# Altium footprint library LEAKCAM.PcbLib: 37 footprints (part 2 of 3)
Each footprint in its own frame and in the unit in brackets; x right, y up, seen from the top. Pads: shape width x height; smd on the part's side, far side on the other; paste and mask are expansions set on the pad; w line width, h text height; cw(c..) or ccw(c..) is an arc to the next point about the centre after c.
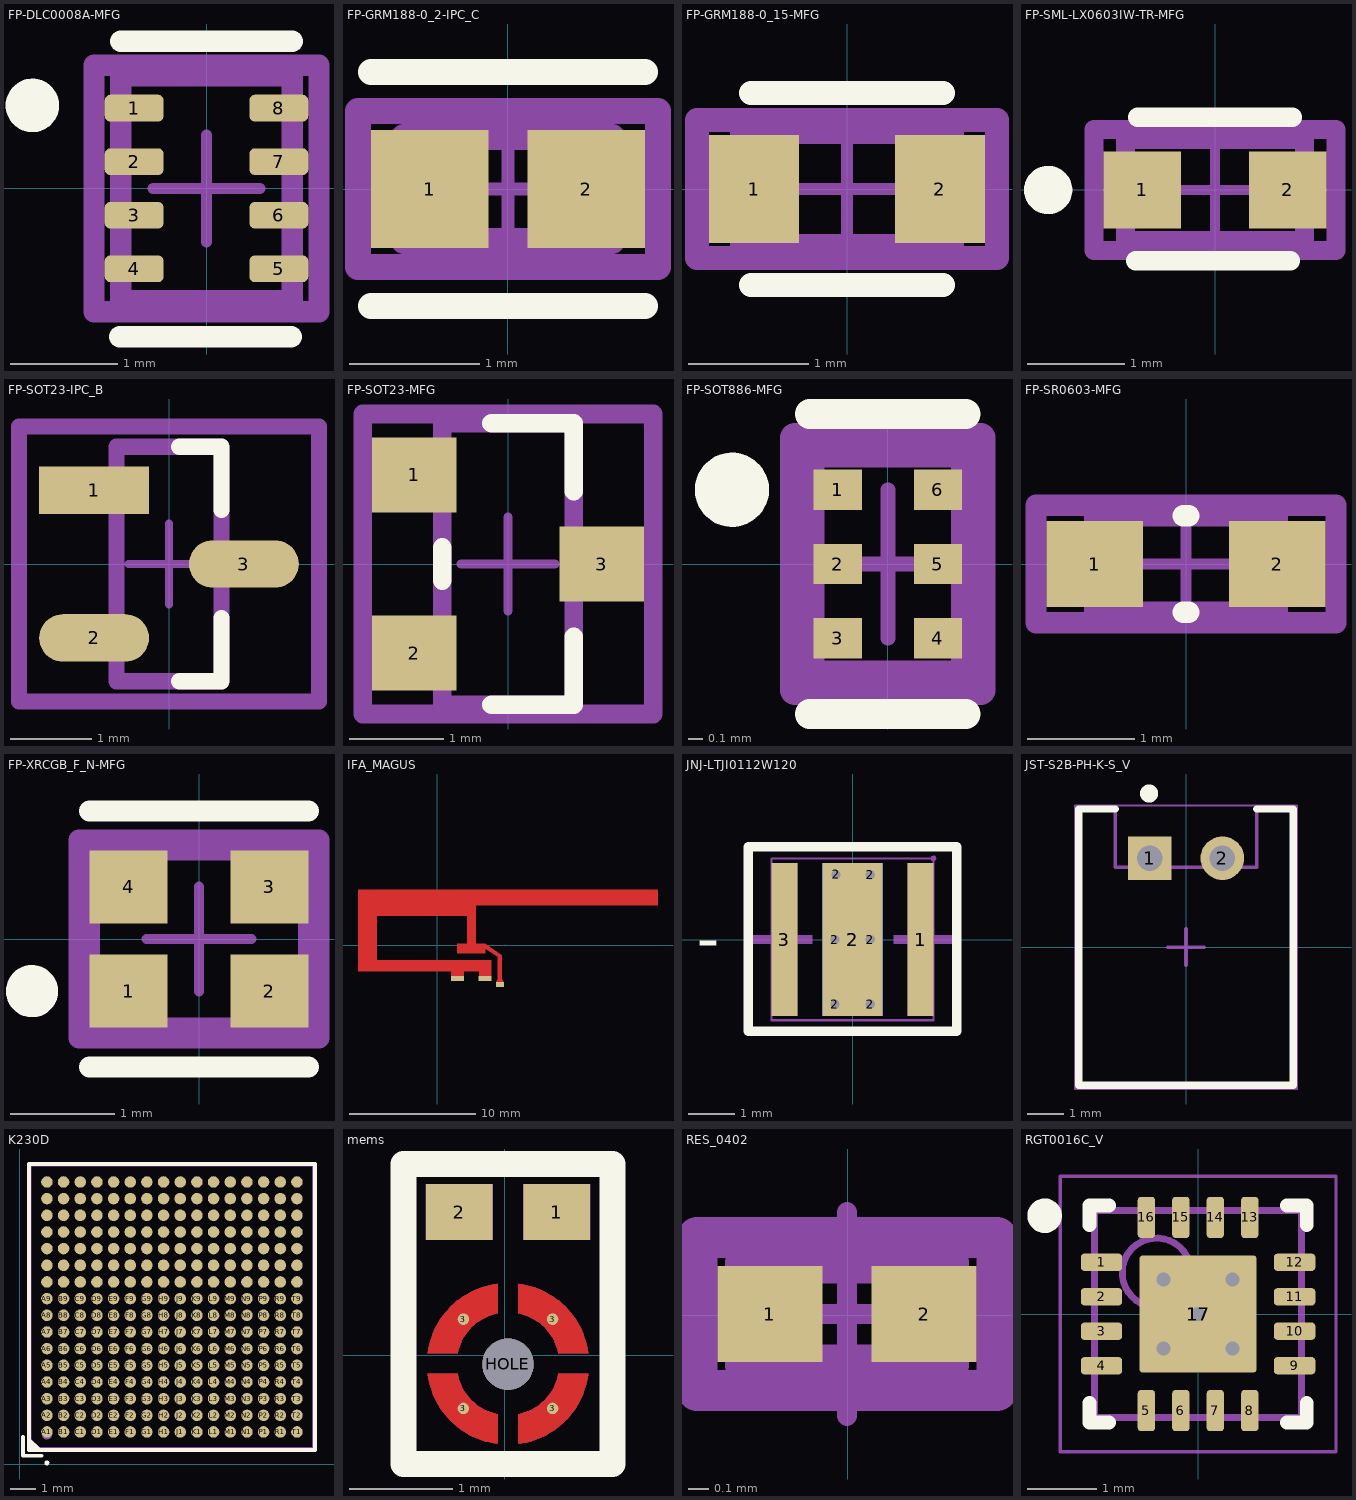
[diagram p1: the footprints below, top view; thin cyan lines are the x and y axes]

## FP-DLC0008A-MFG [mm]
pads (8):
  rrect40% 0.55x0.25 smd paste+0 mask+0: 1(-0.675,0.75) 2(-0.675,0.25) 3(-0.675,-0.25) 4(-0.675,-0.75) 5(0.675,-0.75) 6(0.675,-0.25) 7(0.675,0.25) 8(0.675,0.75)
Top Overlay:
  circle w0.25: c-1.625,0.775 r0.125
  lines w0.2: -0.808,-1.385 0.792,-1.385 ; -0.8,1.375 0.8,1.375
Top Courtyard:
  lines w0.2: -1.05,-1.15 -1.05,1.15 1.05,1.15 1.05,-1.15 -1.05,-1.15
Top Assembly:
  lines w0.2: -1.05,-1.15 -1.05,1.15 1.05,1.15 1.05,-1.15 -1.05,-1.15
  text ".Designator" at 0,0.188 h1
Top 3D Body:
  lines w0.2: -0.8,-1.05 -0.8,1.05 0.8,1.05 0.8,-1.05 -0.8,-1.05
Top Component Center:
  lines w0.1: -0.5,0 0.5,0 ; 0,-0.5 0,0.5
3D body "IC_Texas_Instruments_TPS62822DLCR_eec.STEP": height 1, standoff 0, extent -0.75,-1 0.75,1

## FP-GRM188-0_2-IPC_C [mm]
pads (2):
  rect 0.905x0.906 smd paste+0 mask+0: 1(-0.601,0) 2(0.601,0)
Top Overlay:
  lines w0.2: -1.053,-0.9 1.053,-0.9 ; -1.053,0.9 1.053,0.9
Top Courtyard:
  lines w0.2: -1.153,-0.6 -1.153,0.6 1.153,0.6 1.153,-0.6 -1.153,-0.6
Top Assembly:
  lines w0.2: -1.153,-0.6 -1.153,0.6 1.153,0.6 1.153,-0.6 -1.153,-0.6
  text ".Designator" at 0,0.188 h1
Top 3D Body:
  lines w0.2: -0.8,-0.4 -0.8,0.4 0.8,0.4 0.8,-0.4 -0.8,-0.4
Top Component Center:
  lines w0.1: -0.5,0 0.5,0 ; 0,-0.5 0,0.5
3D body "Cap_Murata_GRM188C71C225KE11D_eec.STEP": height 0.25, standoff 0, extent -1.153,-0.6 1.153,0.6

## FP-GRM188-0_15-MFG [mm]
pads (2):
  rect 0.75x0.9 smd paste+0 mask+0: 1(-0.775,0) 2(0.775,0)
Top Overlay:
  lines w0.2: -0.8,-0.8 0.8,-0.8 ; -0.8,0.8 0.8,0.8
Top Courtyard:
  lines w0.2: -1.25,-0.575 -1.25,0.575 1.25,0.575 1.25,-0.575 -1.25,-0.575
Top Assembly:
  lines w0.2: -1.25,-0.575 -1.25,0.575 1.25,0.575 1.25,-0.575 -1.25,-0.575
  text ".Designator" at 0,0.188 h1
Top 3D Body:
  lines w0.2: -0.875,-0.475 -0.875,0.475 0.875,0.475 0.875,-0.475 -0.875,-0.475
Top Component Center:
  lines w0.1: -0.5,0 0.5,0 ; 0,-0.5 0,0.5
3D body "Cap_Murata_GRM188R61A106ME69D_eec.STEP": height 0.95, standoff 0, extent -0.8,-0.4 0.8,0.4

## FP-SML-LX0603IW-TR-MFG [mm]
pads (2):
  rect 0.8x0.8 smd paste+0 mask+0: 1(-0.75,0) 2(0.75,0)
Top Overlay:
  circle w0.25: c-1.725,0 r0.125
  lines w0.2: -0.821,-0.73 0.779,-0.73 ; -0.8,0.75 0.8,0.75
Top Courtyard:
  lines w0.2: -1.25,-0.625 -1.25,0.625 1.25,0.625 1.25,-0.625 -1.25,-0.625
Top Assembly:
  lines w0.2: -1.25,-0.625 -1.25,0.625 1.25,0.625 1.25,-0.625 -1.25,-0.625
  text ".Designator" at 0,-0.001 h1
Top 3D Body:
  lines w0.2: -0.925,-0.525 -0.925,0.525 0.925,0.525 0.925,-0.525 -0.925,-0.525
Top Component Center:
  lines w0.1: -0.5,0 0.5,0 ; 0,-0.5 0,0.5
3D body "Diode_Lumex_SML-LX0603IW-TR_eec.STEP": height 0.85, standoff 0, extent -0.8,-0.401 0.8,0.401

## FP-SOT23-IPC_B [mm]
pads (3):
  rect 1.359x0.587 smd paste+0 mask+0: 1(-0.927,0.915)
  rrect100% 1.359x0.587 smd paste+0 mask+0: 2(-0.927,-0.915) 3(0.927,0)
Top Overlay:
  lines w0.2: 0.128,-1.45 0.65,-1.45 0.65,-0.668 ; 0.128,1.45 0.65,1.45 0.65,0.668
Top Courtyard:
  lines w0.2: -1.856,-1.7 1.856,-1.7 1.856,1.7 -1.856,1.7 -1.856,-1.7
Top Assembly:
  lines w0.2: -1.856,-1.7 1.856,-1.7 1.856,1.7 -1.856,1.7 -1.856,-1.7
  text ".Designator" at 0,-0.001 h1
Top 3D Body:
  lines w0.2: -0.65,-1.45 0.65,-1.45 0.65,1.45 -0.65,1.45 -0.65,-1.45
Top Component Center:
  lines w0.1: -0.5,0 0.5,0 ; 0,-0.5 0,0.5
3D body "Diode_Diodes_Inc_BZX84C18-7-F_eec.STEP": height 0.25, standoff 0, extent -1.856,-1.7 1.856,1.7

## FP-SOT23-MFG [mm]
pads (3):
  rect 0.9x0.8 smd paste+0 mask+0: 1(-1,0.95) 2(-1,-0.95) 3(1,0)
Top Overlay:
  lines w0.2: -0.7,-0.175 -0.7,0.175 ; -0.175,-1.5 0.7,-1.5 0.7,-0.775 ; -0.175,1.5 0.7,1.5 0.7,0.775
Top Courtyard:
  lines w0.2: -1.55,-1.6 -1.55,1.6 1.55,1.6 1.55,-1.6 -1.55,-1.6
Top Assembly:
  lines w0.2: -1.55,-1.6 -1.55,1.6 1.55,1.6 1.55,-1.6 -1.55,-1.6
  text ".Designator" at 0,-0.001 h1
Top 3D Body:
  lines w0.2: -0.7,-1.5 -0.7,1.5 0.7,1.5 0.7,-1.5 -0.7,-1.5
Top Component Center:
  lines w0.1: -0.5,0 0.5,0 ; 0,-0.5 0,0.5
3D body "Trans_Diodes_Inc_DMG2302UK-7_eec.STEP": height 0.25, standoff 0, extent -1.55,-1.6 1.55,1.6

## FP-SOT886-MFG [mm]
pads (6):
  rect 0.325x0.27 smd paste+0 mask+0: 1(-0.337,0.5) 2(-0.337,0) 3(-0.337,-0.5) 4(0.337,-0.5) 5(0.337,0) 6(0.337,0.5)
Top Overlay:
  circle w0.25: c-1.05,0.5 r0.125
  lines w0.2: -0.525,-1.01 0.525,-1.01 ; -0.525,1.01 0.525,1.01
Top Courtyard:
  lines w0.2: -0.625,-0.85 -0.625,0.85 0.625,0.85 0.625,-0.85 -0.625,-0.85
Top Assembly:
  lines w0.2: -0.625,-0.85 -0.625,0.85 0.625,0.85 0.625,-0.85 -0.625,-0.85
  text ".Designator" at 0,0.188 h1
Top 3D Body:
  lines w0.2: -0.525,-0.75 -0.525,0.75 0.525,0.75 0.525,-0.75 -0.525,-0.75
Top Component Center:
  lines w0.1: -0.5,0 0.5,0 ; 0,-0.5 0,0.5
3D body "Diode_Nexperia_PRTR5V0U2F_115_eec.STEP": height 0.25, standoff 0, extent -0.625,-0.85 0.625,0.85

## FP-SR0603-MFG [mm]
pads (2):
  rect 0.9x0.8 smd paste+0 mask+0: 1(-0.85,0) 2(0.85,0)
Top Overlay:
  lines w0.2: -0.025,-0.45 0.025,-0.45 ; -0.025,0.45 0.025,0.45
Top Courtyard:
  lines w0.2: -1.4,-0.55 -1.4,0.55 1.4,0.55 1.4,-0.55 -1.4,-0.55
Top Assembly:
  lines w0.2: -1.4,-0.55 -1.4,0.55 1.4,0.55 1.4,-0.55 -1.4,-0.55
  text ".Designator" at 0,0.188 h1
Top 3D Body:
  lines w0.2: -0.85,-0.45 -0.85,0.45 0.85,0.45 0.85,-0.45 -0.85,-0.45
Top Component Center:
  lines w0.1: -0.5,0 0.5,0 ; 0,-0.5 0,0.5
3D body "Res_Yageo_SR0603DR-07100KL_eec.STEP": height 0.55, standoff 0, extent -0.824,-0.413 0.776,0.387

## FP-XRCGB_F_N-MFG [mm]
pads (4):
  rect 0.75x0.7 smd paste+0 mask+0: 1(-0.675,-0.5) 2(0.675,-0.5) 3(0.675,0.5) 4(-0.675,0.5)
Top Overlay:
  circle w0.25: c-1.6,-0.5 r0.125
  lines w0.2: -1.05,-1.225 1.05,-1.225 ; -1.05,1.225 1.05,1.225
Top Courtyard:
  lines w0.2: -1.15,-0.95 -1.15,0.95 1.15,0.95 1.15,-0.95 -1.15,-0.95
Top Assembly:
  lines w0.2: -1.15,-0.95 -1.15,0.95 1.15,0.95 1.15,-0.95 -1.15,-0.95
  text ".Designator" at 0,0.188 h1
Top 3D Body:
  lines w0.2: -1.05,-0.85 -1.05,0.85 1.05,0.85 1.05,-0.85 -1.05,-0.85
Top Component Center:
  lines w0.1: -0.5,0 0.5,0 ; 0,-0.5 0,0.5
3D body "Crys_Murata_XRCGB24M000F3M00R0_eec.STEP": height 0.25, standoff 0, extent -1.15,-0.95 1.15,0.95

## IFA_MAGUS [mm]
pads (3):
  rect 0.599x0.4 smd paste+0 mask+0.102: 1(4.978,-3.14)
  rect 1.05x0.4 smd paste+0 mask+0.102: 2(1.603,-2.644)
  rect 1x0.4 smd paste+0 mask+0.102: 2(3.788,-2.644)
Top Layer:
  rectangle: 3.057,3.151 17.524,4.401
  rectangle: 2.34,0 3.074,4.401
  rectangle: 1.083,-2.478 2.134,-2.066
  rectangle: 3.291,-2.459 4.295,-2.072
  rectangle: -6.3,-1.5 -4.8,4.401
  rectangle: -6.3,-2.084 4.295,-1.2
  rectangle: 1.569,-0.675 3.829,0.125
  rectangle: -5,2.307 2.36,4.401
  region: 3.796,-0.28 4.81,-0.942 4.81,-2.675 4.677,-2.945 5.277,-2.945 5.135,-2.675 5.135,-0.813 3.796,0.121

## JNJ-LTJI0112W120 [mm]
pads (10):
  rect 0.559x3.299 smd: 1(1.471,0) 3(-1.471,0)
  round 0.35 hole 0.2: 2(-0.381,-1.397) 2(-0.381,0) 2(-0.356,1.407) 2(0.381,-1.397) 2(0.381,0) 2(0.381,1.397)
  rect 1.3x3.299 smd: 2(0,0)
  rect 1.3x3.299 smd far side: 2(0,0)
Top Overlay:
  lines w0.201: -2.25,-1.979 -2.25,2.002 2.25,2.002 2.25,-1.979 -2.25,-1.979
  text "-" at -3.36,-0.46 h1
Mechanical 2:
  region: -0.866,0.091 -2.156,0.091 -2.156,-0.089 -0.866,-0.089
  region: 1.646,-0.63 1.646,0.66 1.466,0.66 1.466,-0.63
  region: 2.184,0.091 0.894,0.091 0.894,-0.089 2.184,-0.089
Mechanical 6:
  lines w0.051: -1.75,-1.748 1.75,-1.748 1.75,1.75 -1.75,1.75 -1.75,-1.748
Mechanical 8:
  region: 1.808,1.75 1.801,1.72 1.775,1.697 1.74,1.692 1.709,1.707 1.692,1.735 1.692,1.768 1.709,1.796 1.74,1.811 1.775,1.806 1.801,1.783
Mechanical 9:
  region: 1.189,1.651 1.75,1.651 1.75,-1.648 1.189,-1.648
  region: -0.65,1.651 0.65,1.651 0.65,-1.648 -0.65,-1.648
  region: -1.75,1.651 -1.191,1.651 -1.191,-1.648 -1.75,-1.648
3D body "JNJ-LTJI0112W120.step": height 2.1, standoff -0.03, extent -1.757,-1.772 1.743,1.738

## JST-S2B-PH-K-S_V [mm] "THD, 2-Leads, Body 7.6x5.9mm, Pitch 2mm"
height 4.8
pads (2):
  rect 1.2x1.2 hole 0.7: 1(-1,2.45)
  round 1.2 hole 0.7: 2(1,2.45)
Top Overlay:
  circle w0.25: c-1.016,4.228 r0.125
  lines w0.2: -1.95,3.8 -2.95,3.8 -2.95,-3.8 2.95,-3.8 2.95,3.8 1.95,3.8
Top 3D Body:
  lines w0.1: -2.95,-3.8 -2.95,3.8 -1.95,3.8 -1.95,3.8 -1.95,2.2 1.95,2.2 1.95,3.8 2.95,3.8 2.95,-3.8 -2.95,-3.8
Mechanical 15:
  lines w0.05: -3.05,-3.9 3.05,-3.9 3.05,3.9 -3.05,3.9 -3.05,-3.9
  lines w0.1: -0.5,0 0.5,0 ; 0,-0.5 0,0.5
3D body "S2B-PH-K-S.STEP": height 4.8, standoff -3.4, extent -2.95,-3.8 2.95,3.8

## K230D [mil]
pads (256):
  round 17.72 smd paste-2 mask-1.5: A1(41.6,49.3) A2(41.6,74.8) A3(41.6,100.4) A4(41.6,126) A5(41.6,151.6) A6(41.6,177.2) A7(41.6,202.8) A8(41.6,228.4) A9(41.6,254) A10(41.6,279.6) A11(41.6,305.2) A12(41.6,330.8) A13(41.6,356.3) A14(41.6,381.9) A15(41.6,407.5) A16(41.6,433.1) B1(67.2,49.3) B2(67.2,74.8) B3(67.2,100.4) B4(67.2,126) B5(67.2,151.6) B6(67.2,177.2) B7(67.2,202.8) B8(67.2,228.4) B9(67.2,254) B10(67.2,279.6) B11(67.2,305.2) B12(67.2,330.8) B13(67.2,356.3) B14(67.2,381.9) B15(67.2,407.5) B16(67.2,433.1) C1(92.8,49.3) C2(92.8,74.8) C3(92.8,100.4) C4(92.8,126) C5(92.8,151.6) C6(92.8,177.2) C7(92.8,202.8) C8(92.8,228.4) C9(92.8,254) C10(92.8,279.6) C11(92.8,305.2) C12(92.8,330.8) C13(92.8,356.3) C14(92.8,381.9) C15(92.8,407.5) C16(92.8,433.1) D1(118.4,49.3) D2(118.4,74.8) D3(118.4,100.4) D4(118.4,126) D5(118.4,151.6) D6(118.4,177.2) D7(118.4,202.8) D8(118.4,228.4) D9(118.4,254) D10(118.4,279.6) D11(118.4,305.2) D12(118.4,330.8) D13(118.4,356.3) D14(118.4,381.9) D15(118.4,407.5) D16(118.4,433.1) E1(144,49.3) E2(144,74.8) E3(144,100.4) E4(144,126) E5(144,151.6) E6(144,177.2) E7(144,202.8) E8(144,228.4) E9(144,254) E10(144,279.6) E11(144,305.2) E12(144,330.8) E13(144,356.3) E14(144,381.9) E15(144,407.5) E16(144,433.1) F1(169.6,49.3) F2(169.6,74.8) F3(169.6,100.4) F4(169.6,126) F5(169.6,151.6) F6(169.6,177.2) F7(169.6,202.8) F8(169.6,228.4) F9(169.6,254) F10(169.6,279.6) F11(169.6,305.2) F12(169.6,330.8) F13(169.6,356.3) F14(169.6,381.9) F15(169.6,407.5) F16(169.6,433.1) G1(195.1,49.3) G2(195.1,74.8) G3(195.1,100.4) G4(195.1,126) G5(195.1,151.6) G6(195.1,177.2) G7(195.1,202.8) G8(195.1,228.4) G9(195.1,254) G10(195.1,279.6) G11(195.1,305.2) G12(195.1,330.8) G13(195.1,356.3) G14(195.1,381.9) G15(195.1,407.5) G16(195.1,433.1) H1(220.7,49.3) H2(220.7,74.8) H3(220.7,100.4) H4(220.7,126) H5(220.7,151.6) H6(220.7,177.2) H7(220.7,202.8) H8(220.7,228.4) H9(220.7,254) H10(220.7,279.6) H11(220.7,305.2) H12(220.7,330.8) H13(220.7,356.3) H14(220.7,381.9) H15(220.7,407.5) H16(220.7,433.1) J1(246.3,49.3) J2(246.3,74.8) J3(246.3,100.4) J4(246.3,126) J5(246.3,151.6) J6(246.3,177.2) J7(246.3,202.8) J8(246.3,228.4) J9(246.3,254) J10(246.3,279.6) J11(246.3,305.2) J12(246.3,330.8) J13(246.3,356.3) J14(246.3,381.9) J15(246.3,407.5) J16(246.3,433.1) K1(271.9,49.3) K2(271.9,74.8) K3(271.9,100.4) K4(271.9,126) K5(271.9,151.6) K6(271.9,177.2) K7(271.9,202.8) K8(271.9,228.4) K9(271.9,254) K10(271.9,279.6) K11(271.9,305.2) K12(271.9,330.8) K13(271.9,356.3) K14(271.9,381.9) K15(271.9,407.5) K16(271.9,433.1) L1(297.5,49.3) L2(297.5,74.8) L3(297.5,100.4) L4(297.5,126) L5(297.5,151.6) L6(297.5,177.2) L7(297.5,202.8) L8(297.5,228.4) L9(297.5,254) L10(297.5,279.6) L11(297.5,305.2) L12(297.5,330.8) L13(297.5,356.3) L14(297.5,381.9) L15(297.5,407.5) L16(297.5,433.1) M1(323.1,49.3) M2(323.1,74.8) M3(323.1,100.4) M4(323.1,126) M5(323.1,151.6) M6(323.1,177.2) M7(323.1,202.8) M8(323.1,228.4) M9(323.1,254) M10(323.1,279.6) M11(323.1,305.2) M12(323.1,330.8) M13(323.1,356.3) M14(323.1,381.9) M15(323.1,407.5) M16(323.1,433.1) N1(348.7,49.3) N2(348.7,74.8) N3(348.7,100.4) N4(348.7,126) N5(348.7,151.6) N6(348.7,177.2) N7(348.7,202.8) N8(348.7,228.4) N9(348.7,254) N10(348.7,279.6) N11(348.7,305.2) N12(348.7,330.8) N13(348.7,356.3) N14(348.7,381.9) N15(348.7,407.5) N16(348.7,433.1) P1(374.3,49.3) P2(374.3,74.8) P3(374.3,100.4) P4(374.3,126) P5(374.3,151.6) P6(374.3,177.2) P7(374.3,202.8) P8(374.3,228.4) P9(374.3,254) P10(374.3,279.6) P11(374.3,305.2) P12(374.3,330.8) P13(374.3,356.3) P14(374.3,381.9) P15(374.3,407.5) P16(374.3,433.1) R1(399.9,49.3) R2(399.9,74.8) R3(399.9,100.4) R4(399.9,126) R5(399.9,151.6) R6(399.9,177.2) R7(399.9,202.8) R8(399.9,228.4) R9(399.9,254) R10(399.9,279.6) R11(399.9,305.2) R12(399.9,330.8) R13(399.9,356.3) R14(399.9,381.9) R15(399.9,407.5) R16(399.9,433.1) T1(425.5,49.3) T2(425.5,74.8) T3(425.5,100.4) T4(425.5,126) T5(425.5,151.6) T6(425.5,177.2) T7(425.5,202.8) T8(425.5,228.4) T9(425.5,254) T10(425.5,279.6) T11(425.5,305.2) T12(425.5,330.8) T13(425.5,356.3) T14(425.5,381.9) T15(425.5,407.5) T16(425.5,433.1)
Top Overlay:
  region: 14,21.7 33.7,21.7 14,41.3
  lines w3.9: 39.6,2 40,0.8 41,0.1 42.2,0.1 43.2,0.8 43.6,2 43.2,3.1 42.2,3.8 41,3.8 40,3.1 39.6,2
  lines w6: 5,41.3 5,12.7 33.7,12.7 ; 14,21.7 453.1,21.7 453.1,460.7 14,460.7 14,21.7
Top Paste:
  drawing of 256 lines, arcs and shapes, not listed
Mechanical 2:
  region: 14,21.7 33.7,21.7 14,41.3
  lines w7.9: 37.7,45.3 38.1,43.6 39.1,42.2 40.7,41.5 42.5,41.5 44.1,42.2 45.2,43.6 45.5,45.3 45.2,47 44.1,48.4 42.5,49.2 40.7,49.2 39.1,48.4 38.1,47 37.7,45.3
Mechanical 6:
  lines w2: 17,24.7 450.1,24.7 450.1,457.7 17,457.7 17,24.7
Mechanical 8:
  region: 19.4,24.7 19,23.4 18,22.5 16.7,22.3 15.5,22.9 14.7,24 14.7,25.3 15.5,26.4 16.7,27 18,26.8 19,25.9
Mechanical 9:
  drawing of 256 lines, arcs and shapes, not listed
3D body "K230D.step": height 44.49, standoff 0, extent 18.46,23.46 451.54,456.54

## mems [mil]
pads (7):
  rect 25.6x21.5 smd: 1(20,55) 2(-17.4,55)
  round 4.4 smd: 3(-15.8,-20.3) 3(-15.8,13.9) 3(18.4,-20.3) 3(18.4,13.9)
  round 19.68 hole 19.68 unplated: HOLE(1.3,-3.32)
Top Layer:
  region: 5.2,-33.9 6.8,-33.7 8.3,-33.4 9.8,-33 11.3,-32.5 12.8,-32 14.3,-31.3 15.7,-30.7 17,-29.9 18.4,-29.1 19.7,-28.2 20.9,-27.2 22.1,-26.2 23.2,-25.1 24.3,-24 25.3,-22.8 26.3,-21.6 27.2,-20.3 28,-18.9 28.8,-17.6 29.5,-16.1 30.1,-14.7 30.6,-13.2 31.1,-11.7 31.5,-10.2 31.8,-8.7 32,-7.1 20.6,-7.1 20.3,-8.4 19.9,-9.6 19.5,-10.8 19,-12 18.4,-13.1 17.7,-14.2 17,-15.2 16.2,-16.2 15.3,-17.2 14.3,-18 13.4,-18.8 12.3,-19.6 11.2,-20.3 10.1,-20.9 8.9,-21.4 7.7,-21.8 6.5,-22.2 5.2,-22.5
  region: -29.4,-7.1 -29.2,-8.7 -28.9,-10.2 -28.5,-11.7 -28,-13.2 -27.5,-14.7 -26.9,-16.1 -26.2,-17.6 -25.4,-18.9 -24.6,-20.3 -23.7,-21.5 -22.7,-22.8 -21.7,-24 -20.6,-25.1 -19.5,-26.2 -18.3,-27.2 -17.1,-28.2 -15.8,-29.1 -14.5,-29.9 -13.1,-30.7 -11.7,-31.3 -10.2,-32 -8.8,-32.5 -7.3,-33 -5.7,-33.3 -4.2,-33.7 -2.6,-33.9 -2.6,-22.5 -3.9,-22.2 -5.1,-21.8 -6.3,-21.4 -7.5,-20.9 -8.6,-20.3 -9.7,-19.6 -10.8,-18.8 -11.7,-18 -12.7,-17.2 -13.6,-16.2 -14.4,-15.2 -15.1,-14.2 -15.8,-13.1 -16.4,-12 -16.9,-10.8 -17.4,-9.6 -17.7,-8.4 -18,-7.1
  region: -2.6,27.5 -4.2,27.3 -5.7,27 -7.2,26.6 -8.7,26.1 -10.2,25.6 -11.7,25 -13.1,24.3 -14.4,23.5 -15.8,22.7 -17.1,21.8 -18.3,20.9 -19.5,19.8 -20.6,18.8 -21.7,17.6 -22.7,16.4 -23.7,15.2 -24.6,13.9 -25.4,12.6 -26.2,11.2 -26.9,9.8 -27.5,8.3 -28,6.9 -28.5,5.4 -28.9,3.8 -29.2,2.3 -29.4,0.8 -18,0.8 -17.7,2 -17.3,3.2 -16.9,4.4 -16.4,5.6 -15.8,6.7 -15.1,7.8 -14.4,8.9 -13.6,9.9 -12.7,10.8 -11.7,11.7 -10.8,12.5 -9.7,13.2 -8.6,13.9 -7.5,14.5 -6.3,15 -5.1,15.5 -3.9,15.8 -2.6,16.1
  region: 32,0.8 31.8,2.3 31.5,3.8 31.1,5.4 30.6,6.9 30.1,8.3 29.5,9.8 28.8,11.2 28,12.6 27.2,13.9 26.3,15.2 25.3,16.4 24.3,17.6 23.2,18.8 22.1,19.8 20.9,20.9 19.7,21.8 18.4,22.7 17,23.5 15.7,24.3 14.3,25 12.8,25.6 11.3,26.1 9.8,26.6 8.3,27 6.8,27.3 5.2,27.5 5.2,16.1 6.5,15.8 7.7,15.5 8.9,15 10.1,14.5 11.2,13.9 12.3,13.2 13.4,12.5 14.3,11.7 15.3,10.8 16.2,9.9 17,8.9 17.7,7.8 18.4,6.7 19,5.6 19.5,4.4 19.9,3.2 20.3,2 20.6,0.8
Top Overlay:
  lines w10: -38.7,-41.6 41.3,-41.6 41.3,73.4 -38.7,73.4 -38.7,-41.6
Mechanical 6:
  lines w2: -35.1,-37.6 -35.1,70.6 37.7,70.6 37.7,-37.6 -35.1,-37.6
Mechanical 8:
  region: 40.1,70.6 39.7,69.4 38.7,68.5 37.4,68.3 36.2,68.9 35.5,70 35.5,71.3 36.2,72.4 37.4,73 38.7,72.8 39.7,71.9
Mechanical 9:
  drawing of 6 lines, arcs and shapes, not listed
3D body "mems.step": height 35.83, standoff -0.79, extent -35,-37.55 37.83,70.72

## RES_0402 [mm]
pads (2):
  rect 0.515x0.472 smd paste+0 mask+0: 1(-0.382,0.006) 2(0.375,0.006)
Top Courtyard:
  lines w0.2: -0.74,-0.369 -0.74,0.381 0.733,0.381 0.733,-0.369 -0.74,-0.369
Top Assembly:
  lines w0.2: -0.74,-0.369 -0.74,0.381 0.733,0.381 0.733,-0.369 -0.74,-0.369
Top 3D Body:
  lines w0.2: -0.504,-0.244 -0.504,0.256 0.496,0.256 0.496,-0.244 -0.504,-0.244
Top Component Center:
  lines w0.1: -0.504,0.006 0.496,0.006 ; -0.004,-0.494 -0.004,0.506
3D body "Res_Yageo_AC0402FR-0716R2L_eec.STEP": height 0.37, standoff 0, extent -0.504,-0.244 0.496,0.256

## RGT0016C_V [mm] "QFN, 16-Leads, Body 3x3mm, Pitch 0.5mm, Thermal Pad 1.65x1.65mm"
height 1
pads (18):
  rrect40% 0.6x0.25 smd: 1(-1.4,0.75) 2(-1.4,0.25) 3(-1.4,-0.25) 4(-1.4,-0.75) 9(1.4,-0.75) 10(1.4,-0.25) 11(1.4,0.25) 12(1.4,0.75)
  rrect40% 0.25x0.6 smd: 5(-0.75,-1.4) 6(-0.25,-1.4) 7(0.25,-1.4) 8(0.75,-1.4) 13(0.75,1.4) 14(0.25,1.4) 15(-0.25,1.4) 16(-0.75,1.4)
  rrect50% 1.55x1.55 on Top Paste: 17(0,0)
  rrect6% 1.7x1.7 smd paste-0.85: 17(0,0)
via -0.5,-0.5 diameter 0.35 hole 0.2
via -0.5,0.5 diameter 0.35 hole 0.2
via 0.5,0.5 diameter 0.35 hole 0.2
via 0.5,-0.5 diameter 0.35 hole 0.2
via 0,0 diameter 0.35 hole 0.2
Top Overlay:
  circle w0.25: c-2.225,1.425 r0.125
  lines w0.2: -1.575,-1.29 -1.575,-1.575 -1.29,-1.575 ; -1.575,1.29 -1.575,1.575 -1.29,1.575 ; 1.29,-1.575 1.575,-1.575 1.575,-1.29 ; 1.29,1.575 1.575,1.575 1.575,1.29
Mechanical 1:
  text ".Designator" at -1.524,-0.4 h0.8
Top 3D Body:
  circle w0.1: c-0.6,0.6 r0.5
  lines w0.1: -1.5,-1.5 -1.5,1.5 1.5,1.5 1.5,-1.5 -1.5,-1.5
Mechanical 15:
  lines w0.05: -2,-2 -2,2 2,2 2,-2 -2,-2
  lines w0.1: -0.5,0 0.5,0 ; 0,-0.5 0,0.5
3D body "RGT0016C_V.step": height 0.76, standoff 0, extent -1.51,-1.51 1.51,1.51